# Altium footprint library MOLEX_KK_TH_3PIN.PcbLib: 1 footprints
Each footprint in its own frame and in the unit in brackets; x right, y up, seen from the top. Pads: shape width x height; smd on the part's side, far side on the other; paste and mask are expansions set on the pad; w line width, h text height; cw(c..) or ccw(c..) is an arc to the next point about the centre after c.
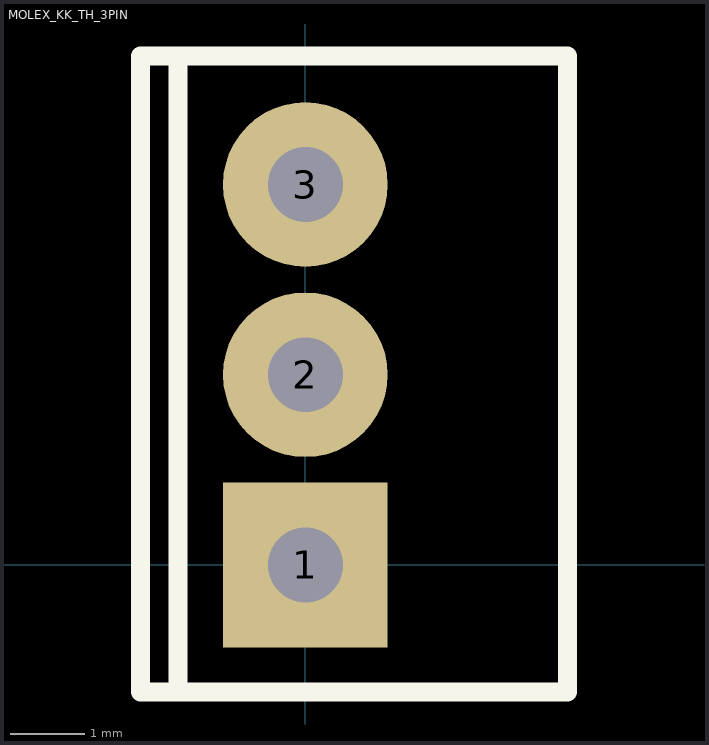
[diagram p0: the footprint, top view; thin cyan lines are the x and y axes]

## MOLEX_KK_TH_3PIN [mm]
pads (3):
  rect 2.2x2.2 hole 1: 1(0,0)
  round 2.2 hole 1: 2(0,2.54) 3(0,5.08)
Top Overlay:
  lines w0.254: -1.7,-1.7 -1.7,6.8 ; -2.2,-1.7 3.5,-1.7 3.5,6.8 -2.2,6.8 -2.2,-1.7